# Altium integrated library M80-6661642.IntLib: 1 symbol
Pins are listed as number, name and electrical type; pins without a type are passive.

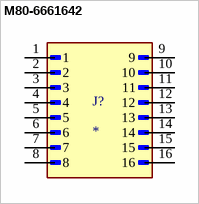
[diagram p0: symbol M80-6661642]

## M80-6661642
designator J?
MP: M80-6661642; Package: None; Price: None; Value: *; Availability: Unavailable
footprint HARWIN_M80-6661642
pins: 1, 2, 3, 4, 5, 6, 7, 8, 9, 10, 11, 12, 13, 14, 15, 16